# Altium footprint library 48V to BOB.PcbLib: 26 footprints (part 1 of 2)
Each footprint in its own frame and in the unit in brackets; x right, y up, seen from the top. Pads: shape width x height; smd on the part's side, far side on the other; paste and mask are expansions set on the pad; w line width, h text height; cw(c..) or ccw(c..) is an arc to the next point about the centre after c.
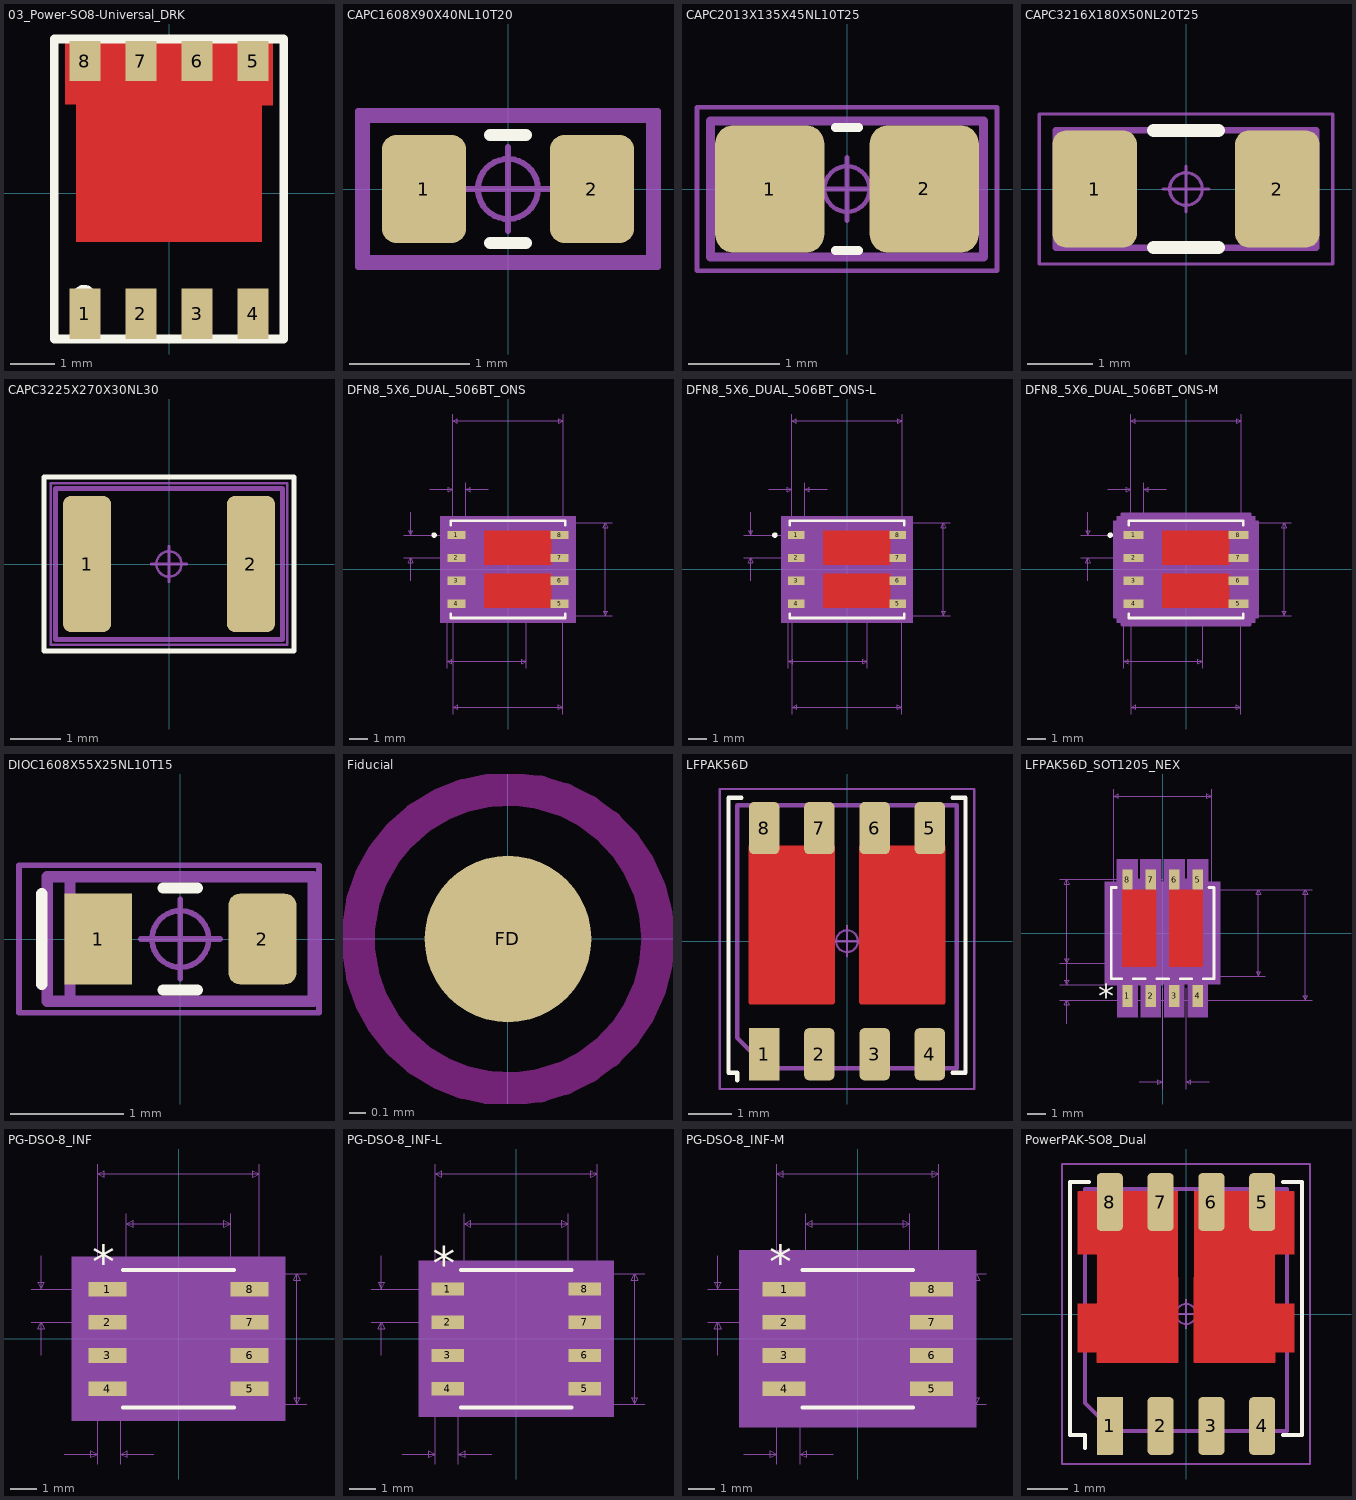
[diagram p0: the footprints below, top view; thin cyan lines are the x and y axes]

## 03_Power-SO8-Universal_DRK [mm] "Recommended universal Power-SO8 (See OnSemi AND9137/D) & LFPAK footprint allows the following device types  to be mounted to a single PCB design: NXP LFPAK (SOT669 & SOT1023), Infineon PG-TDSON-8, Fairchild Power 56, Vishay PowerPAK SO-8, NEC 8-pin HVSON, ON Semi SO-8 FL, STM PowerFLAT (6x5), Renesas LFPAK"
height 1
pads (8):
  rect 0.7x1.15 smd paste-0.05 mask+0.075: 1(-1.905,-2.725) 2(-0.635,-2.725) 3(0.635,-2.725) 4(1.905,-2.725)
  rect 0.7x0.9 smd paste-0.05 mask+0.075: 5(1.905,3) 6(0.635,3) 7(-0.635,3) 8(-1.905,3)
Top Layer:
  region: 2.1,-1.1 -2.1,-1.1 -2.1,2.025 -2.35,2.025 -2.35,3.5 2.35,3.5 2.35,2 2.1,2
Top Overlay:
  circle w0.254: c-1.925,-2.335 r0.135
  lines w0.2: -2.6,-3.3 2.6,-3.3 2.6,3.5 -2.6,3.5 -2.6,-3.3
Top Paste:
  region: -0.7,1.7 -1.6,1.7 -1.6,2.3 -0.7,2.3
  region: 0.45,1.7 -0.45,1.7 -0.45,2.3 0.45,2.3
  region: 1.6,1.7 0.7,1.7 0.7,2.3 1.6,2.3
  region: 1.6,0.85 0.7,0.85 0.7,1.45 1.6,1.45
  region: 0.45,0.85 -0.45,0.85 -0.45,1.45 0.45,1.45
  region: -0.7,0.85 -1.6,0.85 -1.6,1.45 -0.7,1.45
  region: 1.6,0 0.7,0 0.7,0.6 1.6,0.6
  region: 0.45,-0.85 -0.45,-0.85 -0.45,-0.25 0.45,-0.25
  region: -0.7,0 -1.6,0 -1.6,0.6 -0.7,0.6
  region: -0.7,-0.85 -1.6,-0.85 -1.6,-0.25 -0.7,-0.25
  region: 0.45,0 -0.45,0 -0.45,0.6 0.45,0.6
  region: 1.6,-0.85 0.7,-0.85 0.7,-0.25 1.6,-0.25
3D body "User Library-PQFN8_5X6.step": height 1.01, standoff 0.01, extent -2.55,-3 2.55,3.2

## CAPC1608X90X40NL10T20 [mm] "Chip Capacitor, 2-Leads, Body 1.70x0.90mm, IPC Level B, excluding Courtyard (Level C)"
height 0.9
pads (2):
  rrect33% 0.7x0.9 smd: 1(-0.7,0) 2(0.7,0)
Top Overlay:
  lines w0.1: -0.15,-0.45 0.15,-0.45 ; -0.15,0.45 0.15,0.45
Top Assembly (Mech6):
  lines w0.1: -1.2,-0.6 -1.2,0.6 1.2,0.6 1.2,-0.6 -1.2,-0.6
  text ".Designator" at -3.381,-0.339 h1.5
Top Courtyard:
  circle w0.05: c0,0 r0.25
  lines w0.05: -0.35,0 0.35,0 ; 0,-0.35 0,0.35 ; -1.25,-0.65 1.25,-0.65 1.25,0.65 -1.25,0.65 -1.25,-0.65
Top Value:
  lines w0.1: -1.2,-0.6 -1.2,0.6 1.2,0.6 1.2,-0.6 -1.2,-0.6
  text ".Comment" at -3.029,-0.481 h1.5
3D body "CAPC1608X09N.step": height 0.9, standoff 0, extent -0.85,-0.45 0.85,0.45

## CAPC2013X135X45NL10T25 [mm] "Chip Capacitor, 2-Leads, Body 2.10x1.35mm, IPC Level B, excluding Courtyard (Level C)"
height 1.35
pads (2):
  rrect33% 1.2x1.4 smd: 1(-0.85,0) 2(0.85,0)
Top Overlay:
  lines w0.1: -0.125,-0.675 0.125,-0.675 ; -0.125,0.675 0.125,0.675
Top Assembly (Mech6):
  lines w0.1: -1.5,-0.75 1.5,-0.75 1.5,0.75 -1.5,0.75 -1.5,-0.75
  text ".Designator" at -3.381,-0.339 h1.5
Top Courtyard:
  circle w0.05: c0,0 r0.25
  lines w0.05: -0.35,0 0.35,0 ; 0,-0.35 0,0.35 ; -1.65,-0.9 1.65,-0.9 1.65,0.9 -1.65,0.9 -1.65,-0.9
Top Value:
  lines w0.1: -1.5,-0.75 1.5,-0.75 1.5,0.75 -1.5,0.75 -1.5,-0.75
  text ".Comment" at -3.029,-0.481 h1.5
3D body "CAPC2012X14N.step": height 1.35, standoff 0, extent -1.05,-0.675 1.05,0.675

## CAPC3216X180X50NL20T25 [mm] "Chip Capacitor, 2-Leads, Body 3.40x1.80mm, IPC Level B, excluding Courtyard (Level C)"
height 1.8
pads (2):
  rrect33% 1.3x1.8 smd: 1(-1.4,0) 2(1.4,0)
Top Overlay:
  lines w0.2: -0.5,-0.9 0.5,-0.9 ; -0.5,0.9 0.5,0.9
Top Assembly (Mech6):
  lines w0.1: -2,-0.9 2,-0.9 2,0.9 -2,0.9 -2,-0.9
  text ".Designator" at -3.381,-0.339 h1.5
Top Courtyard:
  circle w0.05: c0,0 r0.25
  lines w0.05: -0.35,0 0.35,0 ; 0,-0.35 0,0.35 ; -2.25,-1.15 2.25,-1.15 2.25,1.15 -2.25,1.15 -2.25,-1.15
Top Value:
  lines w0.1: -2,-0.9 2,-0.9 2,0.9 -2,0.9 -2,-0.9
  text ".Comment" at -3.029,-0.481 h1.5
3D body "CAPC3216X18N.step": height 1.8, standoff 0, extent -1.7,-0.9 1.7,0.9

## CAPC3225X270X30NL30 [mm] "Chip Capacitor, 2-Leads, Body 3.5x2.7mm, IPC Medium Density"
height 2.7
pads (2):
  rrect33% 0.95x2.7 smd: 1(-1.625,0) 2(1.625,0)
Top Overlay:
  lines w0.1: -2.475,-1.725 2.475,-1.725 2.475,1.725 -2.475,1.725 -2.475,-1.725
Top Assembly (Mech6):
  lines w0.1: -2.25,-1.5 2.25,-1.5 2.25,1.5 -2.25,1.5 -2.25,-1.5
  text ".Designator" at -3.381,-0.339 h1.5
Top Courtyard:
  circle w0.05: c0,0 r0.25
  lines w0.05: -0.35,0 0.35,0 ; 0,-0.35 0,0.35 ; -2.35,-1.6 2.35,-1.6 2.35,1.6 -2.35,1.6 -2.35,-1.6
Top Value:
  lines w0.1: -2.25,-1.5 2.25,-1.5 2.25,1.5 -2.25,1.5 -2.25,-1.5
  text ".Comment" at -3.029,-0.481 h1.5
3D body "CAPC3225X27L.step": height 2.7, standoff 0, extent -1.75,-1.35 1.75,1.35

## DFN8_5X6_DUAL_506BT_ONS [mm]
pads (8):
  rect 1.011x0.458 smd paste+0 mask+0: 1(-2.868,1.905) 2(-2.868,0.635) 3(-2.868,-0.635) 4(-2.868,-1.905) 5(2.868,-1.905) 6(2.868,-0.635) 7(2.868,0.635) 8(2.868,1.905)
Top Layer:
  region: 2.413,0.254 2.413,2.146 -1.321,2.146 -1.321,0.254
  region: 2.413,-0.254 2.413,-2.146 -1.321,-2.146 -1.321,-0.254
Top Overlay:
  circle w0.152: c-4.11,1.905 r0.076
  lines w0.152: -3.175,-2.467 -3.175,-2.705 3.175,-2.705 3.175,-2.467 ; -3.175,2.467 -3.175,2.705 3.175,2.705 3.175,2.467
Top Paste:
  region: 2.413,0.254 2.413,2.146 -1.321,2.146 -1.321,0.254
  region: 2.413,-0.254 2.413,-2.146 -1.321,-2.146 -1.321,-0.254
Top Solder:
  region: 2.413,0.254 2.413,2.146 -1.321,2.146 -1.321,0.254
  region: 2.413,-0.254 2.413,-2.146 -1.321,-2.146 -1.321,-0.254
Bottom Assembly:
  region: 3.754,-2.959 -3.754,-2.959 -3.754,2.959 3.754,2.959
Bottom Assembly (Mech7):
  lines w0.025: -5.789,0.635 -2.868,0.635 ; -5.789,1.905 -2.868,1.905 ; -5.408,-0.635 -5.408,0.635 ; -5.408,3.175 -5.408,1.905 ; -4.343,4.445 -3.073,4.445 ; -3.373,-5.499 -3.373,-2.146 ; -3.073,4.826 -3.073,1.905 -3.073,8.636 ; -3.048,-8.039 -3.048,-2.578 ; -2.362,1.905 -2.362,4.826 ; -1.092,4.445 -2.362,4.445 ; 1.021,-5.499 1.021,-2.146 ; 3.048,-8.039 3.048,-2.578 5.789,-2.578 ; 3.048,2.578 5.789,2.578 ; 3.073,1.905 3.073,8.636 ; -5.408,0.635 -5.535,0.381 -5.281,0.381 -5.408,0.635 ; -5.408,1.905 -5.535,2.159 -5.281,2.159 -5.408,1.905 ; -3.373,-5.118 1.021,-5.118 ; -3.373,-5.118 -3.119,-4.991 -3.119,-5.245 -3.373,-5.118 ; -3.073,4.445 -3.327,4.572 -3.327,4.318 -3.073,4.445 ; -3.073,8.255 3.073,8.255 ; -3.073,8.255 -2.819,8.382 -2.819,8.128 -3.073,8.255 ; -3.048,-7.658 3.048,-7.658 ; -3.048,-7.658 -2.794,-7.531 -2.794,-7.785 -3.048,-7.658 ; -2.362,4.445 -2.108,4.572 -2.108,4.318 -2.362,4.445 ; 1.021,-5.118 0.767,-4.991 0.767,-5.245 1.021,-5.118 ; 3.048,-7.658 2.794,-7.531 2.794,-7.785 3.048,-7.658 ; 3.073,8.255 2.819,8.382 2.819,8.128 3.073,8.255 ; 5.408,-2.578 5.408,2.578 ; 5.408,-2.578 5.281,-2.324 5.535,-2.324 5.408,-2.578 ; 5.408,2.578 5.281,2.324 5.535,2.324 5.408,2.578
  text "Default Padstyle: r101_46" at -7.938,-12.103 h1.27
  text "Alt 1 Padstyle: b152_229h76" at -8.572,-14.008 h1.27
  text "Alt 2 Padstyle: b229_152h76" at -8.572,-15.913 h1.27
  text "0.242in/6.147mm" at -2.381,8.763 h0.64
  text "0.028in/0.711mm" at -5.099,4.953 h0.64
  text "0.05in/1.27mm" at -10.043,0.953 h0.64
  text "0.203in/5.156mm" at 5.916,-0.318 h0.64
  text "0.24in/6.096mm" at -2.222,-8.801 h0.64
  text "0.173in/4.394mm" at -3.558,-6.261 h0.64
Bottom Value:
  circle w0: c-2.362,1.905 r0.076
  lines w0: -0.305,2.578 ccw(c0,2.578) 0.305,2.578
  lines w0.025: -3.048,-2.578 3.048,-2.578 3.048,2.578 -3.048,2.578 -3.048,-2.578
Bottom Value (Mech15):
  region: -3.302,-2.591 -3.627,-2.591 -3.627,2.591 -3.302,2.591 -3.302,2.832 3.302,2.832 3.302,2.591 3.627,2.591 3.627,-2.591 3.302,-2.591 3.302,-2.832 -3.302,-2.832
  lines w0.152: -3.627,-2.591 -3.627,2.591 -3.302,2.591 -3.302,2.832 3.302,2.832 3.302,2.591 3.627,2.591 3.627,-2.591 3.302,-2.591 3.302,-2.832 -3.302,-2.832 -3.302,-2.591 -3.627,-2.591
3D body "DFN8_5X6_DUAL_506BT_ONS.step": height 1.09, standoff 0, extent -3.073,-2.578 3.073,2.578

## DFN8_5X6_DUAL_506BT_ONS-L [mm]
pads (8):
  rect 0.911x0.458 smd paste+0 mask+0: 1(-2.818,1.905) 2(-2.818,0.635) 3(-2.818,-0.635) 4(-2.818,-1.905) 5(2.818,-1.905) 6(2.818,-0.635) 7(2.818,0.635) 8(2.818,1.905)
Top Layer:
  region: 2.413,-0.254 2.413,-2.146 -1.321,-2.146 -1.321,-0.254
  region: 2.413,0.254 2.413,2.146 -1.321,2.146 -1.321,0.254
Top Overlay:
  circle w0.152: c-4.01,1.905 r0.076
  lines w0.152: -3.175,-2.467 -3.175,-2.705 3.175,-2.705 3.175,-2.467 ; -3.175,2.467 -3.175,2.705 3.175,2.705 3.175,2.467
Top Paste:
  region: 2.413,-0.254 2.413,-2.146 -1.321,-2.146 -1.321,-0.254
  region: 2.413,0.254 2.413,2.146 -1.321,2.146 -1.321,0.254
Top Solder:
  region: 2.413,-0.254 2.413,-2.146 -1.321,-2.146 -1.321,-0.254
  region: 2.413,0.254 2.413,2.146 -1.321,2.146 -1.321,0.254
Bottom Assembly:
  region: 3.654,-2.959 -3.654,-2.959 -3.654,2.959 3.654,2.959
Bottom Assembly (Mech7):
  lines w0.025: -5.739,0.635 -2.818,0.635 ; -5.739,1.905 -2.818,1.905 ; -5.358,-0.635 -5.358,0.635 ; -5.358,3.175 -5.358,1.905 ; -4.343,4.445 -3.073,4.445 ; -3.273,-5.499 -3.273,-2.146 ; -3.073,4.826 -3.073,1.905 -3.073,8.636 ; -3.048,-8.039 -3.048,-2.578 ; -2.362,1.905 -2.362,4.826 ; -1.092,4.445 -2.362,4.445 ; 1.121,-5.499 1.121,-2.146 ; 3.048,-8.039 3.048,-2.578 5.739,-2.578 ; 3.048,2.578 5.739,2.578 ; 3.073,1.905 3.073,8.636 ; -5.358,0.635 -5.231,0.381 -5.485,0.381 -5.358,0.635 ; -5.358,1.905 -5.231,2.159 -5.485,2.159 -5.358,1.905 ; -3.273,-5.118 -3.019,-5.245 -3.019,-4.991 -3.273,-5.118 ; -3.273,-5.118 1.121,-5.118 ; -3.073,4.445 -3.327,4.318 -3.327,4.572 -3.073,4.445 ; -3.073,8.255 -2.819,8.128 -2.819,8.382 -3.073,8.255 ; -3.073,8.255 3.073,8.255 ; -3.048,-7.658 -2.794,-7.785 -2.794,-7.531 -3.048,-7.658 ; -3.048,-7.658 3.048,-7.658 ; -2.362,4.445 -2.108,4.318 -2.108,4.572 -2.362,4.445 ; 1.121,-5.118 0.867,-5.245 0.867,-4.991 1.121,-5.118 ; 3.048,-7.658 2.794,-7.785 2.794,-7.531 3.048,-7.658 ; 3.073,8.255 2.819,8.128 2.819,8.382 3.073,8.255 ; 5.358,-2.578 5.485,-2.324 5.231,-2.324 5.358,-2.578 ; 5.358,-2.578 5.358,2.578 ; 5.358,2.578 5.485,2.324 5.231,2.324 5.358,2.578
  text "0.173in/4.394mm" at -3.458,-6.261 h0.64
  text "0.24in/6.096mm" at -2.222,-8.801 h0.64
  text "0.203in/5.156mm" at 5.866,-0.318 h0.64
  text "0.05in/1.27mm" at -9.993,0.953 h0.64
  text "0.028in/0.711mm" at -5.099,4.953 h0.64
  text "0.242in/6.147mm" at -2.381,8.763 h0.64
  text "Alt 2 Padstyle: b229_152h76" at -8.572,-15.913 h1.27
  text "Alt 1 Padstyle: b152_229h76" at -8.572,-14.008 h1.27
  text "Default Padstyle: r91_46" at -7.62,-12.103 h1.27
Bottom Value:
  circle w0: c-2.362,1.905 r0.076
  lines w0: -0.305,2.578 ccw(c0,2.578) 0.305,2.578
  lines w0.025: -3.048,-2.578 -3.048,2.578 3.048,2.578 3.048,-2.578 -3.048,-2.578
Bottom Value (Mech15):
  region: -3.15,-2.56 -3.375,-2.56 -3.375,2.56 -3.15,2.56 -3.15,2.68 3.15,2.68 3.15,2.56 3.375,2.56 3.375,-2.56 3.15,-2.56 3.15,-2.68 -3.15,-2.68
  lines w0.152: -3.375,-2.56 -3.15,-2.56 -3.15,-2.68 3.15,-2.68 3.15,-2.56 3.375,-2.56 3.375,2.56 3.15,2.56 3.15,2.68 -3.15,2.68 -3.15,2.56 -3.375,2.56 -3.375,-2.56
3D body "DFN8_5X6_DUAL_506BT_ONS.step": height 1.09, standoff 0, extent -3.073,-2.578 3.073,2.578

## DFN8_5X6_DUAL_506BT_ONS-M [mm]
pads (8):
  rect 1.111x0.458 smd paste+0 mask+0: 1(-2.918,1.905) 2(-2.918,0.635) 3(-2.918,-0.635) 4(-2.918,-1.905) 5(2.918,-1.905) 6(2.918,-0.635) 7(2.918,0.635) 8(2.918,1.905)
Top Layer:
  region: 2.413,-0.254 2.413,-2.146 -1.321,-2.146 -1.321,-0.254
  region: 2.413,0.254 2.413,2.146 -1.321,2.146 -1.321,0.254
Top Overlay:
  circle w0.152: c-4.21,1.905 r0.076
  lines w0.152: -3.175,-2.467 -3.175,-2.705 3.175,-2.705 3.175,-2.467 ; -3.175,2.467 -3.175,2.705 3.175,2.705 3.175,2.467
Top Paste:
  region: 2.413,-0.254 2.413,-2.146 -1.321,-2.146 -1.321,-0.254
  region: 2.413,0.254 2.413,2.146 -1.321,2.146 -1.321,0.254
Top Solder:
  region: 2.413,-0.254 2.413,-2.146 -1.321,-2.146 -1.321,-0.254
  region: 2.413,0.254 2.413,2.146 -1.321,2.146 -1.321,0.254
Bottom Assembly:
  region: 3.854,-2.959 -3.854,-2.959 -3.854,2.959 3.854,2.959
Bottom Assembly (Mech7):
  lines w0.025: -5.839,0.635 -2.918,0.635 ; -5.839,1.905 -2.918,1.905 ; -5.458,-0.635 -5.458,0.635 ; -5.458,3.175 -5.458,1.905 ; -4.343,4.445 -3.073,4.445 ; -3.473,-5.499 -3.473,-2.146 ; -3.073,4.826 -3.073,1.905 -3.073,8.636 ; -3.048,-8.039 -3.048,-2.578 ; -2.362,1.905 -2.362,4.826 ; -1.092,4.445 -2.362,4.445 ; 0.921,-5.499 0.921,-2.146 ; 3.048,-8.039 3.048,-2.578 5.839,-2.578 ; 3.048,2.578 5.839,2.578 ; 3.073,1.905 3.073,8.636 ; -5.458,0.635 -5.331,0.381 -5.585,0.381 -5.458,0.635 ; -5.458,1.905 -5.331,2.159 -5.585,2.159 -5.458,1.905 ; -3.473,-5.118 -3.219,-5.245 -3.219,-4.991 -3.473,-5.118 ; -3.473,-5.118 0.921,-5.118 ; -3.073,4.445 -3.327,4.318 -3.327,4.572 -3.073,4.445 ; -3.073,8.255 -2.819,8.128 -2.819,8.382 -3.073,8.255 ; -3.073,8.255 3.073,8.255 ; -3.048,-7.658 -2.794,-7.785 -2.794,-7.531 -3.048,-7.658 ; -3.048,-7.658 3.048,-7.658 ; -2.362,4.445 -2.108,4.318 -2.108,4.572 -2.362,4.445 ; 0.921,-5.118 0.667,-5.245 0.667,-4.991 0.921,-5.118 ; 3.048,-7.658 2.794,-7.785 2.794,-7.531 3.048,-7.658 ; 3.073,8.255 2.819,8.128 2.819,8.382 3.073,8.255 ; 5.458,-2.578 5.585,-2.324 5.331,-2.324 5.458,-2.578 ; 5.458,-2.578 5.458,2.578 ; 5.458,2.578 5.585,2.324 5.331,2.324 5.458,2.578
  text "0.173in/4.394mm" at -3.658,-6.261 h0.64
  text "0.24in/6.096mm" at -2.222,-8.801 h0.64
  text "0.203in/5.156mm" at 5.966,-0.318 h0.64
  text "0.05in/1.27mm" at -10.093,0.953 h0.64
  text "0.028in/0.711mm" at -5.099,4.953 h0.64
  text "0.242in/6.147mm" at -2.381,8.763 h0.64
  text "Alt 2 Padstyle: b229_152h76" at -8.572,-15.913 h1.27
  text "Alt 1 Padstyle: b152_229h76" at -8.572,-14.008 h1.27
  text "Default Padstyle: r111_46" at -7.938,-12.103 h1.27
Bottom Value:
  circle w0: c-2.362,1.905 r0.076
  lines w0: -0.305,2.578 ccw(c0,2.578) 0.305,2.578
  lines w0.025: -3.048,-2.578 -3.048,2.578 3.048,2.578 3.048,-2.578 -3.048,-2.578
Bottom Value (Mech15):
  region: -3.556,-2.642 -3.981,-2.642 -3.981,2.642 -3.556,2.642 -3.556,3.086 3.556,3.086 3.556,2.642 3.981,2.642 3.981,-2.642 3.556,-2.642 3.556,-3.086 -3.556,-3.086
  lines w0.152: -3.981,-2.642 -3.556,-2.642 -3.556,-3.086 3.556,-3.086 3.556,-2.642 3.981,-2.642 3.981,2.642 3.556,2.642 3.556,3.086 -3.556,3.086 -3.556,2.642 -3.981,2.642 -3.981,-2.642
3D body "DFN8_5X6_DUAL_506BT_ONS.step": height 1.09, standoff 0, extent -3.073,-2.578 3.073,2.578

## DIOC1608X55X25NL10T15 [mm] "Chip Diode, 2-Leads, Body 1.70x0.90mm, IPC Level B, excluding Courtyard (Level C)"
height 0.65
pads (2):
  rrect1% 0.6x0.8 smd: 1(-0.725,0)
  rrect33% 0.6x0.8 smd: 2(0.725,0)
Top Overlay:
  lines w0.1: -1.225,-0.4 -1.225,0.4 ; -0.15,-0.45 0.15,-0.45 ; -0.15,0.45 0.15,0.45
Top Assembly (Mech6):
  lines w0.1: -0.975,-0.55 -0.975,0.55 ; -1.175,-0.55 1.175,-0.55 1.175,0.55 -1.175,0.55 -1.175,-0.55
  text ".Designator" at -3.381,-0.339 h1.5
Top Courtyard:
  circle w0.05: c0,0 r0.25
  lines w0.05: -0.35,0 0.35,0 ; 0,-0.35 0,0.35 ; -1.425,-0.65 -1.425,0.65 1.225,0.65 1.225,-0.65 -1.425,-0.65
Top Value:
  lines w0.1: -0.975,-0.55 -0.975,0.55 ; -1.175,-0.55 1.175,-0.55 1.175,0.55 -1.175,0.55 -1.175,-0.55
  text ".Comment" at -3.029,-0.481 h1.5
3D body "User Library-LED_0603_Y.STEP": height 0.6, standoff 0, extent -0.8,-0.4 0.8,0.4

## Fiducial [mm] "1mm Dot diameter, 2mm Ring Diameter"
pads (1):
  round 1 smd paste-99 mask+0.5: FD(0,0)
Top Layer keep-out:
  circle w0.2: c0,0 r0.9

## LFPAK56D [mm] "LFPAK56D (SOT1205), adapted to have the same size as a SO8"
height 1.14
pads (8):
  rrect1% 0.7x1.2 smd: 1(-1.905,-2.6)
  rrect33% 0.7x1.2 smd: 2(-0.635,-2.6) 3(0.635,-2.6) 4(1.905,-2.6) 5(1.905,2.6) 6(0.635,2.6) 7(-0.635,2.6) 8(-1.905,2.6)
Top Layer:
  region: 0.325,-1.45 2.225,-1.45 2.232,-1.449 2.244,-1.442 2.253,-1.431 2.256,-1.417 2.255,-1.41 2.255,2.2 0.285,2.2 0.285,-1.41 0.285,-1.418 0.291,-1.433 0.302,-1.444 0.317,-1.45
  region: -0.325,-1.45 -2.225,-1.45 -2.232,-1.449 -2.244,-1.442 -2.253,-1.431 -2.256,-1.417 -2.255,-1.41 -2.255,2.2 -0.285,2.2 -0.285,-1.41 -0.285,-1.418 -0.291,-1.433 -0.302,-1.444 -0.317,-1.45
Top Overlay:
  lines w0.1: -2.525,-3.2 -2.525,-3.025 -2.725,-3.025 -2.725,3.3 -2.425,3.3 ; 2.425,-3.025 2.725,-3.025 2.725,3.3 2.425,3.3
Top Paste:
  region: -1.25,0.85 -1.85,0.85 -1.85,1.45 -1.25,1.45
  region: -0.4,-0.85 -1,-0.85 -1,-0.25 -0.4,-0.25
  region: -0.4,0 -1,0 -1,0.6 -0.4,0.6
  region: -0.4,0.85 -1,0.85 -1,1.45 -0.4,1.45
  region: -1.25,-0.25 -1.25,-0.85 -1.85,-0.85 -1.85,-0.25
  region: -1.25,0.6 -1.25,0 -1.85,0 -1.85,0.6
  region: 1.25,0.6 1.25,0 1.85,0 1.85,0.6
  region: 1.25,-0.25 1.25,-0.85 1.85,-0.85 1.85,-0.25
  region: 0.4,0.85 1,0.85 1,1.45 0.4,1.45
  region: 0.4,0 1,0 1,0.6 0.4,0.6
  region: 0.4,-0.85 1,-0.85 1,-0.25 0.4,-0.25
  region: 1.25,0.85 1.85,0.85 1.85,1.45 1.25,1.45
Top Assembly (Mech6):
  lines w0.1: -2.525,-2.225 -2.525,3.125 2.525,3.125 2.525,-2.925 -1.825,-2.925 -2.525,-2.225
  text ".Designator" at -3.381,-0.339 h1.5
Top Courtyard:
  circle w0.05: c0,0 r0.25
  lines w0.05: -0.35,0 0.35,0 ; 0,-0.35 0,0.35 ; -2.925,-3.4 2.925,-3.4 2.925,3.5 -2.925,3.5 -2.925,-3.4
Top Value:
  lines w0.1: -2.525,-2.225 -2.525,3.125 2.525,3.125 2.525,-2.925 -1.825,-2.925 -2.525,-2.225
  text ".Comment" at -3.029,-0.481 h1.5
3D body "SOT1205 (2).step": height 1.07, standoff -0.03, extent -2.55,-2.98 2.55,3.18

## LFPAK56D_SOT1205_NEX [mil]
pads (8):
  rect 22x47 smd paste+0 mask+0: 1(-75,-134) 2(-25,-134) 3(25,-134) 4(75,-134)
  rect 22x43 smd: 5(75,114) 6(25,114) 7(-25,114) 8(-75,114)
Top Layer:
  region: 14,92.5 14,-71.5 86,-71.5 86,92.5
  region: -86,92.5 -86,-71.5 -14,-71.5 -14,92.5
Top Overlay:
  lines w6: -99.1,97.5 -109.5,97.5 -109.5,-97.5 -87.62,-97.5 ; -62.38,-97.5 -37.62,-97.5 ; -12.38,-97.5 12.38,-97.5 ; 37.62,-97.5 62.38,-97.5 ; 87.62,-97.5 109.5,-97.5 109.5,97.5 99.1,97.5
  text "*" at -137.5,-159 h50
Top Paste:
  region: 14,92.5 14,-71.5 86,-71.5 86,92.5
  region: -86,92.5 -86,-71.5 -14,-71.5 -14,92.5
Top Solder:
  region: 14,92.5 14,-71.5 86,-71.5 86,92.5
  region: -86,92.5 -86,-71.5 -14,-71.5 -14,92.5
Bottom Assembly:
  region: 3.4,-180.14 46.6,-180.14 46.6,-109.07 53.4,-109.07 53.4,-180.14 96.6,-180.14 96.6,-109.07 123.22,-109.07 123.22,109.07 97.39,109.07 97.39,157.76 52.61,157.76 52.61,115.39 47.39,115.39 47.39,157.76 2.61,157.76 2.61,109.07 -2.61,109.07 -2.61,157.76 -47.39,157.76 -47.39,115.39 -52.61,115.39 -52.61,157.76 -97.39,157.76 -97.39,109.07 -123.22,109.07 -123.22,-109.07 -96.6,-109.07 -96.6,-180.14 -53.4,-180.14 -53.4,-109.07 -46.6,-109.07 -46.6,-180.14 -3.4,-180.14 -3.4,-109.07 3.4,-109.07
Bottom Assembly (Mech7):
  lines w1: -219.5,-143.5 0,-143.5 319.5,-143.5 ; -219.5,-110.5 0,-110.5 ; -219.5,-64.5 0,-64.5 ; -219.5,114.5 0,114.5 ; -204.5,-193.5 -204.5,-143.5 ; -204.5,-60.5 -204.5,-110.5 ; -104.5,0 -104.5,307.5 ; -50,-318 0,-318 ; 0,-333 0,-118 ; 0,-92.5 219.5,-92.5 ; 50,-333 50,-118 ; 100,-318 50,-318 ; 104.5,0 104.5,307.5 ; 219.5,92.5 0,92.5 319.5,92.5 ; -204.5,-143.5 -199.5,-153.5 -209.5,-153.5 -204.5,-143.5 ; -204.5,-110.5 -199.5,-100.5 -209.5,-100.5 -204.5,-110.5 ; -204.5,-64.5 -199.5,-54.5 -209.5,-54.5 -204.5,-64.5 ; -204.5,-64.5 -204.5,114.5 ; -204.5,114.5 -199.5,104.5 -209.5,104.5 -204.5,114.5 ; -104.5,292.5 -94.5,287.5 -94.5,297.5 -104.5,292.5 ; -104.5,292.5 104.5,292.5 ; 0,-318 -10,-323 -10,-313 0,-318 ; 50,-318 60,-323 60,-313 50,-318 ; 104.5,292.5 94.5,287.5 94.5,297.5 104.5,292.5 ; 204.5,-92.5 209.5,-82.5 199.5,-82.5 204.5,-92.5 ; 204.5,-92.5 204.5,92.5 ; 204.5,92.5 209.5,82.5 199.5,82.5 204.5,92.5 ; 304.5,-143.5 309.5,-133.5 299.5,-133.5 304.5,-143.5 ; 304.5,-143.5 304.5,92.5 ; 304.5,92.5 309.5,82.5 299.5,82.5 304.5,92.5
  text "0.05in/1.27mm" at -56.25,-363 h25
  text "0.033in/0.838mm" at -412,-139.5 h25
  text "0.236in/5.994mm" at 324.5,-54 h25
  text "0.209in/5.309mm" at -93.75,312.5 h25
  text "0.179in/4.547mm" at -412,12.5 h25
  text "0.185in/4.699mm" at 224.5,-12.5 h25
  text "Alt 2 Padstyle: OX90Y60D30P" at -337.5,-718.5 h50
  text "Alt 1 Padstyle: OX60Y90D30P" at -337.5,-643.5 h50
  text "Large Padstyle: RX72Y207D0T" at -337.5,-568.5 h50
  text "Default Padstyle: RX22Y47D0T" at -350,-493.5 h50
Bottom Value:
  lines w1: -104.5,-92.5 -104.5,92.5 104.5,92.5 104.5,-92.5 -104.5,-92.5 ; -85,-143.5 -65,-143.5 -65,-92.5 -85,-92.5 -85,-143.5 ; -35,-143.5 -15,-143.5 -15,-92.5 -35,-92.5 -35,-143.5 ; 15,-143.5 35,-143.5 35,-92.5 15,-92.5 15,-143.5 ; 65,-143.5 85,-143.5 85,-92.5 65,-92.5 65,-143.5
  text "*" at -87.5,-107.5 h50
Bottom Value (Mech15):
  region: 9.76,-166.56 40.24,-166.56 40.24,-99.13 59.76,-99.13 59.76,-166.56 90.24,-166.56 90.24,-99.13 111.99,-99.13 111.99,99.13 90.55,99.13 90.55,144.4 59.45,144.4 59.45,101.66 40.55,101.66 40.55,144.4 9.45,144.4 9.45,99.13 -9.45,99.13 -9.45,144.4 -40.55,144.4 -40.55,101.66 -59.45,101.66 -59.45,144.4 -90.55,144.4 -90.55,99.13 -111.99,99.13 -111.99,-99.13 -90.24,-99.13 -90.24,-166.56 -59.76,-166.56 -59.76,-99.13 -40.24,-99.13 -40.24,-166.56 -9.76,-166.56 -9.76,-99.13 9.76,-99.13
  lines w6: -111.99,-99.13 -90.24,-99.13 -90.24,-166.56 -59.76,-166.56 -59.76,-99.13 -40.24,-99.13 -40.24,-166.56 -9.76,-166.56 -9.76,-99.13 9.76,-99.13 9.76,-166.56 40.24,-166.56 40.24,-99.13 59.76,-99.13 59.76,-166.56 90.24,-166.56 90.24,-99.13 111.99,-99.13 111.99,99.13 90.55,99.13 90.55,144.4 59.45,144.4 59.45,101.66 40.55,101.66 40.55,144.4 9.45,144.4 9.45,99.13 -9.45,99.13 -9.45,144.4 -40.55,144.4 -40.55,101.66 -59.45,101.66 -59.45,144.4 -90.55,144.4 -90.55,99.13 -111.99,99.13 -111.99,-99.13
3D body: height 10, standoff 0, extent 0,0 10,10

## PG-DSO-8_INF [mm]
pads (8):
  rect 1.455x0.558 smd paste+0 mask+0: 1(-2.721,1.905) 2(-2.721,0.635) 3(-2.721,-0.635) 4(-2.721,-1.905) 5(2.721,-1.905) 6(2.721,-0.635) 7(2.721,0.635) 8(2.721,1.905)
Top Overlay:
  lines w0.152: -2.121,-2.629 2.121,-2.629 ; -2.121,2.629 2.121,2.629
  text "*" at -3.293,2.336 h1.27
Bottom Assembly:
  region: 4.084,-3.137 -4.084,-3.137 -4.084,3.137 4.084,3.137
Bottom Assembly (Mech7):
  lines w0.025: -5.642,0.635 -2.721,0.635 ; -5.642,1.905 -2.721,1.905 ; -5.261,-0.635 -5.261,0.635 ; -5.261,3.175 -5.261,1.905 ; -4.369,-4.407 -3.099,-4.407 ; -3.099,-4.788 -3.099,0 -3.099,6.693 ; -2.21,-4.788 -2.21,0 ; -1.994,0 -1.994,4.788 ; -0.94,-4.407 -2.21,-4.407 ; 0,-2.502 4.915,-2.502 ; 0,2.502 4.915,2.502 ; 1.994,0 1.994,4.788 ; 3.099,0 3.099,6.693 ; -5.261,0.635 -5.134,0.381 -5.388,0.381 -5.261,0.635 ; -5.261,1.905 -5.134,2.159 -5.388,2.159 -5.261,1.905 ; -3.099,-4.407 -3.353,-4.534 -3.353,-4.28 -3.099,-4.407 ; -3.099,6.312 -2.845,6.185 -2.845,6.439 -3.099,6.312 ; -3.099,6.312 3.099,6.312 ; -2.21,-4.407 -1.956,-4.534 -1.956,-4.28 -2.21,-4.407 ; -1.994,4.407 -1.74,4.28 -1.74,4.534 -1.994,4.407 ; -1.994,4.407 1.994,4.407 ; 1.994,4.407 1.74,4.28 1.74,4.534 1.994,4.407 ; 3.099,6.312 2.845,6.185 2.845,6.439 3.099,6.312 ; 4.534,-2.502 4.661,-2.248 4.407,-2.248 4.534,-2.502 ; 4.534,-2.502 4.534,2.502 ; 4.534,2.502 4.661,2.248 4.407,2.248 4.534,2.502
  text "0.035in/0.889mm" at -5.036,-5.55 h0.64
  text "0.05in/1.27mm" at -9.897,0.953 h0.64
  text "0.197in/5.004mm" at 5.042,-0.318 h0.64
  text "0.244in/6.198mm" at -2.381,6.82 h0.64
  text "0.157in/3.988mm" at -2.381,4.915 h0.64
  text "Alt 2 Padstyle: b229_152h76" at -8.572,-15.202 h1.27
  text "Alt 1 Padstyle: b152_229h76" at -8.572,-13.678 h1.27
  text "Pin One Padstyle: r145_56" at -7.938,-9.106 h1.27
  text "Default Padstyle: r145_56" at -7.938,-7.582 h1.27
Bottom Value:
  lines w0: -0.305,2.502 ccw(c0,2.502) 0.305,2.502
  lines w0.025: -3.099,-2.159 -1.994,-2.159 -1.994,-1.651 -3.099,-1.651 -3.099,-2.159 ; -3.099,-0.889 -1.994,-0.889 -1.994,-0.381 -3.099,-0.381 -3.099,-0.889 ; -3.099,0.381 -1.994,0.381 -1.994,0.889 -3.099,0.889 -3.099,0.381 ; -3.099,1.651 -1.994,1.651 -1.994,2.159 -3.099,2.159 -3.099,1.651 ; -1.994,-2.502 -1.994,2.502 1.994,2.502 1.994,-2.502 -1.994,-2.502 ; 1.994,-2.159 3.099,-2.159 3.099,-1.651 1.994,-1.651 1.994,-2.159 ; 1.994,-0.889 3.099,-0.889 3.099,-0.381 1.994,-0.381 1.994,-0.889 ; 1.994,0.381 3.099,0.381 3.099,0.889 1.994,0.889 1.994,0.381 ; 1.994,1.651 3.099,1.651 3.099,2.159 1.994,2.159 1.994,1.651
  text "*" at -1.93,1.156 h1.27
Bottom Value (Mech15):
  region: -2.248,-2.438 -3.703,-2.438 -3.703,2.438 -2.248,2.438 -2.248,2.756 2.248,2.756 2.248,2.438 3.703,2.438 3.703,-2.438 2.248,-2.438 2.248,-2.756 -2.248,-2.756
  lines w0.152: -3.703,-2.438 -2.248,-2.438 -2.248,-2.756 2.248,-2.756 2.248,-2.438 3.703,-2.438 3.703,2.438 2.248,2.438 2.248,2.756 -2.248,2.756 -2.248,2.438 -3.703,2.438 -3.703,-2.438
3D body "PG-DSO-8_INF.step": height 1.76, standoff 0, extent -3.099,-2.502 3.099,2.502

## PG-DSO-8_INF-L [mil]
pads (8):
  rect 49.41x20 smd paste+0 mask+0: 1(-103.2,75) 2(-103.2,25) 3(-103.2,-25) 4(-103.2,-75) 5(103.2,-75) 6(103.2,-25) 7(103.2,25) 8(103.2,75)
Top Overlay:
  lines w6: -83.5,-103.5 83.5,-103.5 ; -83.5,103.5 83.5,103.5
  text "*" at -125.7,90 h50
Bottom Assembly:
  region: 146.91,-117.5 -146.91,-117.5 -146.91,117.5 146.91,117.5
Bottom Assembly (Mech7):
  lines w1: -218.2,25 -103.2,25 ; -218.2,75 -103.2,75 ; -203.2,-25 -203.2,25 ; -203.2,125 -203.2,75 ; -172,-173.5 -122,-173.5 ; -122,-188.5 -122,0 -122,263.5 ; -87,-188.5 -87,0 ; -78.5,0 -78.5,188.5 ; -37,-173.5 -87,-173.5 ; 0,-98.5 193.5,-98.5 ; 0,98.5 193.5,98.5 ; 78.5,0 78.5,188.5 ; 122,0 122,263.5 ; -203.2,25 -208.2,15 -198.2,15 -203.2,25 ; -203.2,75 -208.2,85 -198.2,85 -203.2,75 ; -122,-173.5 -132,-168.5 -132,-178.5 -122,-173.5 ; -122,248.5 122,248.5 ; -122,248.5 -112,253.5 -112,243.5 -122,248.5 ; -87,-173.5 -77,-168.5 -77,-178.5 -87,-173.5 ; -78.5,173.5 78.5,173.5 ; -78.5,173.5 -68.5,178.5 -68.5,168.5 -78.5,173.5 ; 78.5,173.5 68.5,178.5 68.5,168.5 78.5,173.5 ; 122,248.5 112,253.5 112,243.5 122,248.5 ; 178.5,-98.5 178.5,98.5 ; 178.5,-98.5 173.5,-88.5 183.5,-88.5 178.5,-98.5 ; 178.5,98.5 173.5,88.5 183.5,88.5 178.5,98.5
  text "Default Padstyle: r125_51" at -312.5,-298.5 h50
  text "Pin One Padstyle: r125_51" at -312.5,-358.5 h50
  text "Alt 1 Padstyle: b152_229h76" at -337.5,-538.5 h50
  text "Alt 2 Padstyle: b229_152h76" at -337.5,-598.5 h50
  text "0.157in/3.988mm" at -93.75,193.5 h25
  text "0.244in/6.198mm" at -93.75,268.5 h25
  text "0.197in/5.004mm" at 198.5,-12.5 h25
  text "0.05in/1.27mm" at -385.7,37.5 h25
  text "0.035in/0.889mm" at -198.25,-218.5 h25
Bottom Value:
  lines w0: -12,98.5 ccw(c0,98.5) 12,98.5
  lines w1: -122,-85 -122,-65 -78.5,-65 -78.5,-85 -122,-85 ; -122,-35 -122,-15 -78.5,-15 -78.5,-35 -122,-35 ; -122,15 -122,35 -78.5,35 -78.5,15 -122,15 ; -122,65 -122,85 -78.5,85 -78.5,65 -122,65 ; -78.5,-98.5 78.5,-98.5 78.5,98.5 -78.5,98.5 -78.5,-98.5 ; 78.5,-85 78.5,-65 122,-65 122,-85 78.5,-85 ; 78.5,-35 78.5,-15 122,-15 122,-35 78.5,-35 ; 78.5,15 78.5,35 122,35 122,15 78.5,15 ; 78.5,65 78.5,85 122,85 122,65 78.5,65
  text "*" at -76,45.5 h50
Bottom Value (Mech15):
  region: -82.5,-89 -131.91,-89 -131.91,89 -82.5,89 -82.5,102.5 82.5,102.5 82.5,89 131.91,89 131.91,-89 82.5,-89 82.5,-102.5 -82.5,-102.5
  lines w6: -131.91,-89 -131.91,89 -82.5,89 -82.5,102.5 82.5,102.5 82.5,89 131.91,89 131.91,-89 82.5,-89 82.5,-102.5 -82.5,-102.5 -82.5,-89 -131.91,-89
3D body "PG-DSO-8_INF.step": height 69.09, standoff 0, extent -122.01,-98.5 122.01,98.5

## PG-DSO-8_INF-M [mm]
pads (8):
  rect 1.655x0.558 smd paste+0 mask+0: 1(-2.821,1.905) 2(-2.821,0.635) 3(-2.821,-0.635) 4(-2.821,-1.905) 5(2.821,-1.905) 6(2.821,-0.635) 7(2.821,0.635) 8(2.821,1.905)
Top Overlay:
  lines w0.152: -2.121,-2.629 2.121,-2.629 ; -2.121,2.629 2.121,2.629
  text "*" at -3.393,2.336 h1.27
Bottom Assembly:
  region: 4.538,-3.391 -4.538,-3.391 -4.538,3.391 4.538,3.391
Bottom Assembly (Mech7):
  lines w0.025: -5.742,0.635 -2.821,0.635 ; -5.742,1.905 -2.821,1.905 ; -5.361,-0.635 -5.361,0.635 ; -5.361,3.175 -5.361,1.905 ; -4.369,-4.407 -3.099,-4.407 ; -3.099,-4.788 -3.099,0 -3.099,6.693 ; -2.21,-4.788 -2.21,0 ; -1.994,0 -1.994,4.788 ; -0.94,-4.407 -2.21,-4.407 ; 0,-2.502 4.915,-2.502 ; 0,2.502 4.915,2.502 ; 1.994,0 1.994,4.788 ; 3.099,0 3.099,6.693 ; -5.361,0.635 -5.488,0.381 -5.234,0.381 -5.361,0.635 ; -5.361,1.905 -5.488,2.159 -5.234,2.159 -5.361,1.905 ; -3.099,-4.407 -3.353,-4.28 -3.353,-4.534 -3.099,-4.407 ; -3.099,6.312 3.099,6.312 ; -3.099,6.312 -2.845,6.439 -2.845,6.185 -3.099,6.312 ; -2.21,-4.407 -1.956,-4.28 -1.956,-4.534 -2.21,-4.407 ; -1.994,4.407 1.994,4.407 ; -1.994,4.407 -1.74,4.534 -1.74,4.28 -1.994,4.407 ; 1.994,4.407 1.74,4.534 1.74,4.28 1.994,4.407 ; 3.099,6.312 2.845,6.439 2.845,6.185 3.099,6.312 ; 4.534,-2.502 4.534,2.502 ; 4.534,-2.502 4.407,-2.248 4.661,-2.248 4.534,-2.502 ; 4.534,2.502 4.407,2.248 4.661,2.248 4.534,2.502
  text "Default Padstyle: r165_56" at -7.938,-7.582 h1.27
  text "Pin One Padstyle: r165_56" at -7.938,-9.106 h1.27
  text "Alt 1 Padstyle: b152_229h76" at -8.572,-13.678 h1.27
  text "Alt 2 Padstyle: b229_152h76" at -8.572,-15.202 h1.27
  text "0.157in/3.988mm" at -2.381,4.915 h0.64
  text "0.244in/6.198mm" at -2.381,6.82 h0.64
  text "0.197in/5.004mm" at 5.042,-0.318 h0.64
  text "0.05in/1.27mm" at -9.997,0.953 h0.64
  text "0.035in/0.889mm" at -5.036,-5.55 h0.64
Bottom Value:
  lines w0: -0.305,2.502 ccw(c0,2.502) 0.305,2.502
  lines w0.025: -3.099,-2.159 -3.099,-1.651 -1.994,-1.651 -1.994,-2.159 -3.099,-2.159 ; -3.099,-0.889 -3.099,-0.381 -1.994,-0.381 -1.994,-0.889 -3.099,-0.889 ; -3.099,0.381 -3.099,0.889 -1.994,0.889 -1.994,0.381 -3.099,0.381 ; -3.099,1.651 -3.099,2.159 -1.994,2.159 -1.994,1.651 -3.099,1.651 ; -1.994,-2.502 1.994,-2.502 1.994,2.502 -1.994,2.502 -1.994,-2.502 ; 1.994,-2.159 1.994,-1.651 3.099,-1.651 3.099,-2.159 1.994,-2.159 ; 1.994,-0.889 1.994,-0.381 3.099,-0.381 3.099,-0.889 1.994,-0.889 ; 1.994,0.381 1.994,0.889 3.099,0.889 3.099,0.381 1.994,0.381 ; 1.994,1.651 1.994,2.159 3.099,2.159 3.099,1.651 1.994,1.651
  text "*" at -1.93,1.156 h1.27
Bottom Value (Mech15):
  region: -2.502,-2.692 -4.157,-2.692 -4.157,2.692 -2.502,2.692 -2.502,3.01 2.502,3.01 2.502,2.692 4.157,2.692 4.157,-2.692 2.502,-2.692 2.502,-3.01 -2.502,-3.01
  lines w0.152: -4.157,-2.692 -4.157,2.692 -2.502,2.692 -2.502,3.01 2.502,3.01 2.502,2.692 4.157,2.692 4.157,-2.692 2.502,-2.692 2.502,-3.01 -2.502,-3.01 -2.502,-2.692 -4.157,-2.692
3D body "PG-DSO-8_INF.step": height 1.76, standoff 0, extent -3.099,-2.502 3.099,2.502

## PowerPAK-SO8_Dual [mm] "PowerPAK SO-8L Dual (SQJ500AEP), PowerFLAT 5x6 Dual (STL40C30H3LL), PDFN56 Dual (TSM6502CR), derrived from Universal Power-SO8 (OnsemiApplication Note AND9137/D)"
height 1.14
pads (8):
  rrect1% 0.65x1.45 smd: 1(-1.905,-2.8)
  rrect33% 0.65x1.45 smd: 2(-0.635,-2.8) 3(0.635,-2.8) 4(1.905,-2.8) 5(1.905,2.8) 6(0.635,2.8) 7(-0.635,2.8) 8(-1.905,2.8)
Top Layer:
  region: -0.215,-1.215 -2.21,-1.215 -2.213,-1.215 -2.218,-1.213 -2.223,-1.209 -2.225,-1.203 -2.225,-1.2 -2.225,-0.975 -2.225,-0.972 -2.228,-0.967 -2.232,-0.963 -2.237,-0.96 -2.24,-0.96 -2.69,-0.96 -2.692,-0.96 -2.696,-0.958 -2.698,-0.956 -2.7,-0.952 -2.7,-0.95 -2.7,0.25 -2.7,0.251 -2.699,0.253 -2.698,0.254 -2.696,0.255 -2.695,0.255 -2.245,0.255 -2.241,0.255 -2.234,0.258 -2.228,0.264 -2.225,0.271 -2.225,0.275 -2.225,1.475 -2.225,1.478 -2.228,1.483 -2.232,1.487 -2.237,1.49 -2.24,1.49 -2.69,1.49 -2.692,1.49 -2.696,1.492 -2.698,1.494 -2.7,1.498 -2.7,1.5 -2.7,3.05 -2.7,3.055 -2.696,3.064 -2.689,3.071 -2.68,3.075 -2.675,3.075 -0.225,3.075 -0.22,3.075 -0.211,3.071 -0.204,3.064 -0.2,3.055 -0.2,3.05 -0.2,-1.2 -0.2,-1.203 -0.202,-1.208 -0.206,-1.213 -0.212,-1.215
  region: 0.215,-1.215 2.21,-1.215 2.213,-1.215 2.218,-1.213 2.223,-1.209 2.225,-1.203 2.225,-1.2 2.225,-0.975 2.225,-0.972 2.228,-0.967 2.232,-0.963 2.237,-0.96 2.24,-0.96 2.69,-0.96 2.692,-0.96 2.696,-0.958 2.698,-0.956 2.7,-0.952 2.7,-0.95 2.7,0.25 2.7,0.251 2.699,0.253 2.698,0.254 2.696,0.255 2.695,0.255 2.245,0.255 2.241,0.255 2.234,0.258 2.228,0.264 2.225,0.271 2.225,0.275 2.225,1.475 2.225,1.478 2.228,1.483 2.232,1.487 2.237,1.49 2.24,1.49 2.69,1.49 2.692,1.49 2.696,1.492 2.698,1.494 2.7,1.498 2.7,1.5 2.7,3.05 2.7,3.055 2.696,3.064 2.689,3.071 2.68,3.075 2.675,3.075 0.225,3.075 0.22,3.075 0.211,3.071 0.204,3.064 0.2,3.055 0.2,3.05 0.2,-1.2 0.2,-1.203 0.202,-1.208 0.206,-1.213 0.212,-1.215
Top Overlay:
  lines w0.1: -2.525,-3.35 -2.525,-3.025 -2.9,-3.025 -2.9,3.3 -2.425,3.3 ; 2.425,-3.025 2.9,-3.025 2.9,3.3 2.425,3.3
Top Paste:
  region: -1.25,0.85 -1.85,0.85 -1.85,1.45 -1.25,1.45
  region: -0.4,-0.85 -1,-0.85 -1,-0.25 -0.4,-0.25
  region: -0.4,0 -1,0 -1,0.6 -0.4,0.6
  region: -0.4,0.85 -1,0.85 -1,1.45 -0.4,1.45
  region: -1.25,-0.25 -1.25,-0.85 -1.85,-0.85 -1.85,-0.25
  region: -1.25,0.6 -1.25,0 -1.85,0 -1.85,0.6
  region: 1.25,0.6 1.25,0 1.85,0 1.85,0.6
  region: 1.25,-0.25 1.25,-0.85 1.85,-0.85 1.85,-0.25
  region: 0.4,0.85 1,0.85 1,1.45 0.4,1.45
  region: 0.4,0 1,0 1,0.6 0.4,0.6
  region: 0.4,-0.85 1,-0.85 1,-0.25 0.4,-0.25
  region: 1.25,0.85 1.85,0.85 1.85,1.45 1.25,1.45
Top Assembly (Mech6):
  lines w0.1: -2.525,-2.225 -2.525,3.125 2.525,3.125 2.525,-2.925 -1.825,-2.925 -2.525,-2.225
  text ".Designator" at -3.381,-0.339 h1.5
Top Courtyard:
  circle w0.05: c0,0 r0.25
  lines w0.05: -0.35,0 0.35,0 ; 0,-0.35 0,0.35 ; -3.1,-3.75 3.1,-3.75 3.1,3.75 -3.1,3.75 -3.1,-3.75
Top Value:
  lines w0.1: -2.525,-2.225 -2.525,3.125 2.525,3.125 2.525,-2.925 -1.825,-2.925 -2.525,-2.225
  text ".Comment" at -3.029,-0.481 h1.5
3D body "User Library-PowerPAK SO-8 (D).STEP": height 0.94, standoff -0.1, extent -2.575,-3.075 2.575,3.075